# EAGLE library part ATXMEGA256A1 (library atmel-xmega)
8/16-bit XMEGA A1 Microcontroller Features High-performance, Low-power 8/16-bit Atmel® AVR® XMEGATM Microcontroller Non-Volatile Program and Data Memories – 64K - 384K Bytes of In-System Self-Programmable Flash – 4K - 8K Bytes Boot Section with Independent Lock Bits – 2 KB - 4 KB EEPROM – 4 KB - 32 KB Internal SRAM External Bus Interface for up to 16M bytes SRAM External Bus Interface for up to 128M bit SDRAM Peripheral Features – Four-channel DMA Controller with support for external requests – Eight-channel Event System – Eight 16-bit Timer/Counters Four Timer/Counters with 4 Output Compare or Input Capture channels Four Timer/Counters with 2 Output Compare or Input Capture channels High-Resolution Extension on all Timer/Counters Advanced Waveform Extension on two Timer/Counters – Eight USARTs IrDA modulation/demodulation for one USART – Four Two-Wire Interfaces with dual address match (I2C and SMBus compatible) – Four SPI (Serial Peripheral Interface) peripherals – AES and DES Crypto Engine – 16-bit Real Time Counter with separate Oscillator – Two Eight-channel, 12-bit, 2 Msps Analog to Digital Converters – Two Two-channel, 12-bit, 1 Msps Digital to Analog Converters – Four Analog Comparators with Window compare function – External Interrupts on all General Purpose I/O pins – Programmable Watchdog Timer with Separate On-chip Ultra Low Power Oscillator Special Microcontroller Features – Power-on Reset and Programmable Brown-out Detection – Internal and External Clock Options with PLL and Prescaler – Programmable Multi-level Interrupt Controller – Sleep Modes: Idle, Power-down, Standby, Power-save, Extended Standby – Advanced Programming, Test and Debugging Interfaces JTAG (IEEE 1149.1 Compliant) Interface for programming, test and debugging PDI (Program and Debug Interface) for programming and debugging I/O and Packages – 78 Programmable I/O Lines – 100 - lead TQFP – 100 - ball CBGA – 100 - ball VFBGA Operating Voltage – 1.6 – 3.6V Speed performance – 0 – 12 MHz @ 1.6 – 3.6V – 0 – 32 MHz @ 2.7 – 3.6V
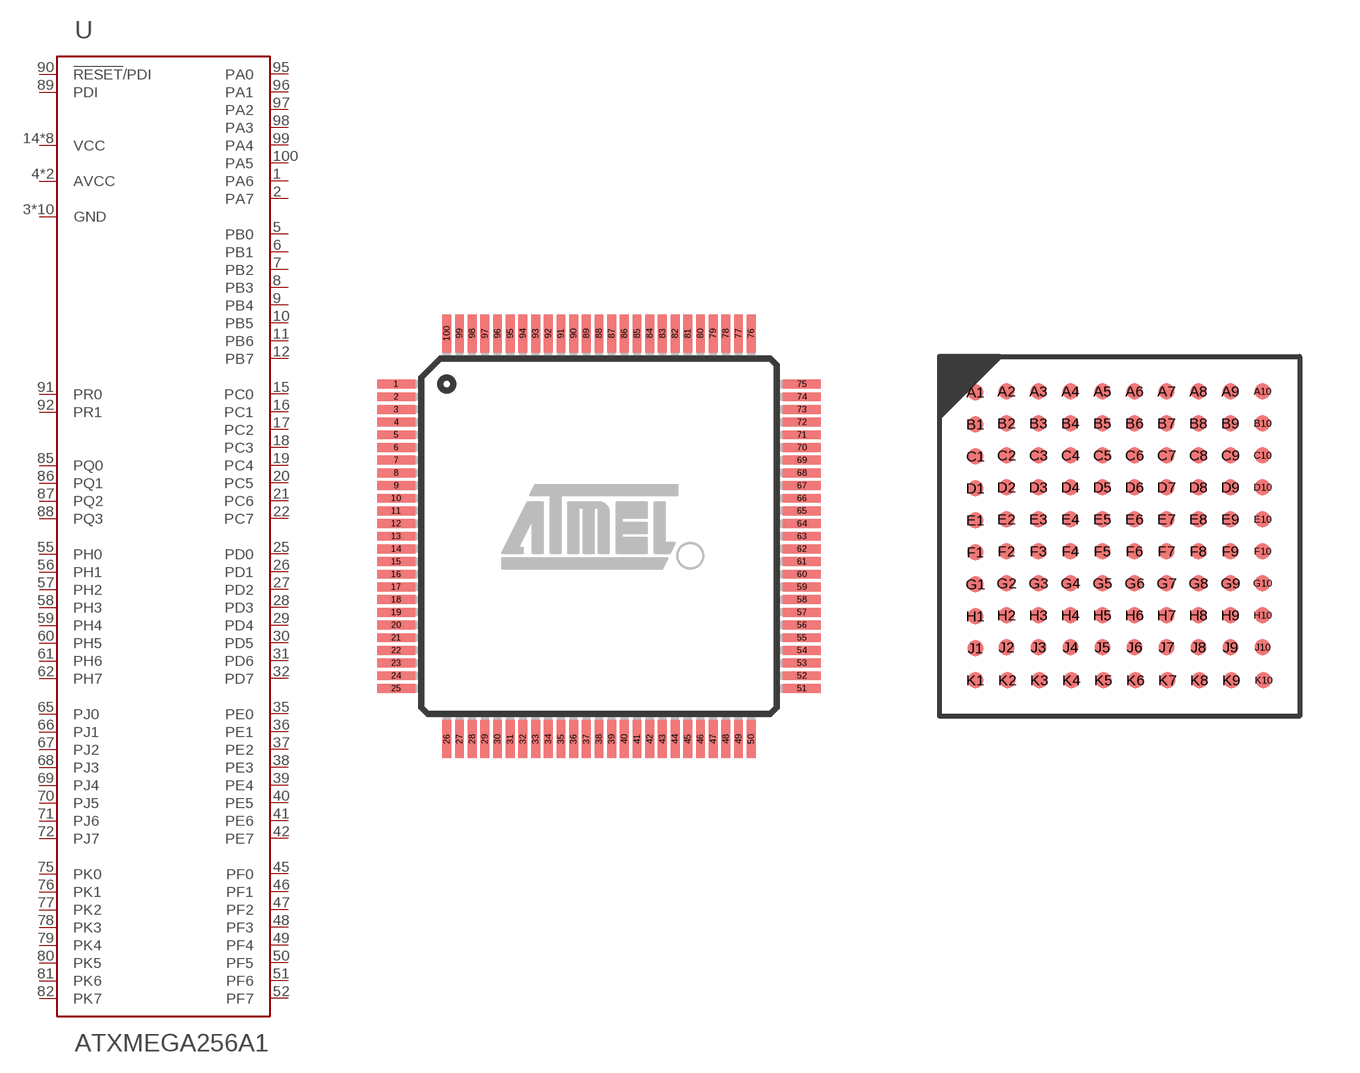
[diagram p31: symbol with the pads of TQFP-100A-100; footprints TQFP-100A-100, CBGA-100C1-100]

Designator prefix U

## ATXMEGA256A1-AU  [TQFP-100A-100]
1  PA6
2  PA7
3  GND  pwr
4  AVCC  pwr
5  PB0
6  PB1
7  PB2
8  PB3
9  PB4
10  PB5
11  PB6
12  PB7
13  GND  pwr
14  VCC  pwr
15  PC0
16  PC1
17  PC2
18  PC3
19  PC4
20  PC5
21  PC6
22  PC7
23  GND  pwr
24  VCC  pwr
25  PD0
26  PD1
27  PD2
28  PD3
29  PD4
30  PD5
31  PD6
32  PD7
33  GND  pwr
34  VCC  pwr
35  PE0
36  PE1
37  PE2
38  PE3
39  PE4
40  PE5
41  PE6
42  PE7
43  GND  pwr
44  VCC  pwr
45  PF0
46  PF1
47  PF2
48  PF3
49  PF4
50  PF5
51  PF6
52  PF7
53  GND  pwr
54  VCC  pwr
55  PH0
56  PH1
57  PH2
58  PH3
59  PH4
60  PH5
61  PH6
62  PH7
63  GND  pwr
64  VCC  pwr
65  PJ0
66  PJ1
67  PJ2
68  PJ3
69  PJ4
70  PJ5
71  PJ6
72  PJ7
73  GND  pwr
74  VCC  pwr
75  PK0
76  PK1
77  PK2
78  PK3
79  PK4
80  PK5
81  PK6
82  PK7
83  VCC  pwr
84  GND  pwr
85  PQ0
86  PQ1
87  PQ2
88  PQ3
89  PDI
90  !RESET!/PDI
91  PR0
92  PR1
93  GND  pwr
94  AVCC  pwr
95  PA0
96  PA1
97  PA2
98  PA3
99  PA4
100  PA5

## ATXMEGA256A1-CU  [CBGA-100C1-100]
A1  PK0
A2  VCC  pwr
A3  GND  pwr
A4  PJ3
A5  VCC  pwr
A6  GND  pwr
A7  PH1
A8  GND  pwr
A9  VCC  pwr
A10  PF7
B1  PK3
B2  PK2
B3  PK1
B4  PJ4
B5  PH7
B6  PH4
B7  PH2
B8  PH0
B9  PF6
B10  PF5
C1  VCC  pwr
C2  PK5
C3  PK4
C4  PJ5
C5  PJ0
C6  PH5
C7  PH3
C8  PF2
C9  PF3
C10  VCC  pwr
D1  GND  pwr
D2  PK6
D3  PK7
D4  PJ6
D5  PJ1
D6  PH6
D7  PF0
D8  PF1
D9  PF4
D10  GND  pwr
E1  PQ0
E2  PQ1
E3  PQ2
E4  PJ7
E5  PJ2
E6  PE7
E7  PE6
E8  PE5
E9  PE4
E10  PE3
F1  PR1
F2  PR0
F3  !RESET!/PDI
F4  PDI
F5  PQ3
F6  PC2
F7  PE2
F8  PE1
F9  PE0
F10  VCC  pwr
G1  GND  pwr
G2  PA1
G3  PA4
G4  PB3
G5  PB4
G6  PC1
G7  PC6
G8  PD7
G9  PD6
G10  GND  pwr
H1  AVCC  pwr
H2  PA2
H3  PA5
H4  PB2
H5  PB5
H6  PC0
H7  PC5
H8  PD5
H9  PD4
H10  PD3
J1  PA0
J2  PA3
J3  PB0
J4  PB1
J5  PB6
J6  PC3
J7  PC4
J8  PC7
J9  PD2
J10  PD1
K1  PA6
K2  PA7
K3  GND  pwr
K4  AVCC  pwr
K5  PB7
K6  VCC  pwr
K7  GND  pwr
K8  VCC  pwr
K9  GND  pwr
K10  PD0

## ATXMEGA256A1-C7U  [VFBGA-100C2-100]
Pads as for CBGA-100C1-100

## Footprint TQFP-100A-100 (pad centres in mm)
100A, 100-lead, 14 x 14 mm Body Size, 1.0 mm Body Thickness, 0.5 mm Lead Pitch, Thin Profile Plastic Quad Flat Package (TQFP)
smd 1.5 x 0.35: 1 -8,6; 2 -8,5.5; 3 -8,5; 4 -8,4.5; 5 -8,4; 6 -8,3.5; 7 -8,3; 8 -8,2.5; 9 -8,2; 10 -8,1.5; 11 -8,1; 12 -8,0.5; 13 -8,0; 14 -8,-0.5; 15 -8,-1; 16 -8,-1.5; 17 -8,-2; 18 -8,-2.5; 19 -8,-3; 20 -8,-3.5; 21 -8,-4; 22 -8,-4.5; 23 -8,-5; 24 -8,-5.5; 25 -8,-6; 51 8,-6; 52 8,-5.5; 53 8,-5; 54 8,-4.5; 55 8,-4; 56 8,-3.5; 57 8,-3; 58 8,-2.5; 59 8,-2; 60 8,-1.5; 61 8,-1; 62 8,-0.5; 63 8,0; 64 8,0.5; 65 8,1; 66 8,1.5; 67 8,2; 68 8,2.5; 69 8,3; 70 8,3.5; 71 8,4; 72 8,4.5; 73 8,5; 74 8,5.5; 75 8,6
smd 0.35 x 1.5: 26 -6,-8; 27 -5.5,-8; 28 -5,-8; 29 -4.5,-8; 30 -4,-8; 31 -3.5,-8; 32 -3,-8; 33 -2.5,-8; 34 -2,-8; 35 -1.5,-8; 36 -1,-8; 37 -0.5,-8; 38 0,-8; 39 0.5,-8; 40 1,-8; 41 1.5,-8; 42 2,-8; 43 2.5,-8; 44 3,-8; 45 3.5,-8; 46 4,-8; 47 4.5,-8; 48 5,-8; 49 5.5,-8; 50 6,-8; 76 6,8; 77 5.5,8; 78 5,8; 79 4.5,8; 80 4,8; 81 3.5,8; 82 3,8; 83 2.5,8; 84 2,8; 85 1.5,8; 86 1,8; 87 0.5,8; 88 0,8; 89 -0.5,8; 90 -1,8; 91 -1.5,8; 92 -2,8; 93 -2.5,8; 94 -3,8; 95 -3.5,8; 96 -4,8; 97 -4.5,8; 98 -5,8; 99 -5.5,8; 100 -6,8

## Footprint CBGA-100C1-100 (pad centres in mm)
100C1, 100-ball, 9 x 9 x 1.2 mm Body, Ball Pitch 0.80 mm Chip Array BGA Package (CBGA)
smd 0.4 x 0.4: A1 -3.6,3.6; A2 -2.825,3.625; A3 -2.025,3.625; A4 -1.225,3.625; A5 -0.425,3.625; A6 0.375,3.625; A7 1.175,3.625; A8 1.975,3.625; A9 2.775,3.625; A10 3.575,3.625; B1 -3.6,2.8; B2 -2.825,2.825; B3 -2.025,2.825; B4 -1.225,2.825; B5 -0.425,2.825; B6 0.375,2.825; B7 1.175,2.825; B8 1.975,2.825; B9 2.775,2.825; B10 3.575,2.825; C1 -3.6,2; C2 -2.825,2.025; C3 -2.025,2.025; C4 -1.225,2.025; C5 -0.425,2.025; C6 0.375,2.025; C7 1.175,2.025; C8 1.975,2.025; C9 2.775,2.025; C10 3.575,2.025; D1 -3.6,1.2; D2 -2.825,1.225; D3 -2.025,1.225; D4 -1.225,1.225; D5 -0.425,1.225; D6 0.375,1.225; D7 1.175,1.225; D8 1.975,1.225; D9 2.775,1.225; D10 3.575,1.225; E1 -3.6,0.4; E2 -2.825,0.425; E3 -2.025,0.425; E4 -1.225,0.425; E5 -0.425,0.425; E6 0.375,0.425; E7 1.175,0.425; E8 1.975,0.425; E9 2.775,0.425; E10 3.575,0.425; F1 -3.6,-0.4; F2 -2.825,-0.375; F3 -2.025,-0.375; F4 -1.225,-0.375; F5 -0.425,-0.375; F6 0.375,-0.375; F7 1.175,-0.375; F8 1.975,-0.375; F9 2.775,-0.375; F10 3.575,-0.375; G1 -3.6,-1.2; G2 -2.825,-1.175; G3 -2.025,-1.175; G4 -1.225,-1.175; G5 -0.425,-1.175; G6 0.375,-1.175; G7 1.175,-1.175; G8 1.975,-1.175; G9 2.775,-1.175; G10 3.575,-1.175; H1 -3.6,-2; H2 -2.825,-1.975; H3 -2.025,-1.975; H4 -1.225,-1.975; H5 -0.425,-1.975; H6 0.375,-1.975; H7 1.175,-1.975; H8 1.975,-1.975; H9 2.775,-1.975; H10 3.575,-1.975; J1 -3.6,-2.8; J2 -2.825,-2.775; J3 -2.025,-2.775; J4 -1.225,-2.775; J5 -0.425,-2.775; J6 0.375,-2.775; J7 1.175,-2.775; J8 1.975,-2.775; J9 2.775,-2.775; J10 3.575,-2.775; K1 -3.6,-3.6; K2 -2.8,-3.6; K3 -2,-3.6; K4 -1.2,-3.6; K5 -0.4,-3.6; K6 0.4,-3.6; K7 1.2,-3.6; K8 2,-3.6; K9 2.8,-3.6; K10 3.6,-3.6

## Footprint VFBGA-100C2-100 (pad centres in mm)
100C2, 100-ball (10 x 10 Array), 0.65 mm Pitch, 7.0 x 7.0 x 1.0 mm, Very Thin, Fine-Pitch Ball Grid Array Package (VFBGA)
smd 0.35 x 0.35: A1 -2.925,2.925; A2 -2.275,2.925; A3 -1.625,2.925; A4 -0.975,2.925; A5 -0.325,2.925; A6 0.325,2.925; A7 0.975,2.925; A8 1.625,2.925; A9 2.275,2.925; A10 2.925,2.925; B1 -2.925,2.275; B2 -2.275,2.275; B3 -1.625,2.275; B4 -0.975,2.275; B5 -0.325,2.275; B6 0.325,2.275; B7 0.975,2.275; B8 1.625,2.275; B9 2.275,2.275; B10 2.925,2.275; C1 -2.925,1.625; C2 -2.275,1.625; C3 -1.625,1.625; C4 -0.975,1.625; C5 -0.325,1.625; C6 0.325,1.625; C7 0.975,1.625; C8 1.625,1.625; C9 2.275,1.625; C10 2.925,1.625; D1 -2.925,0.975; D2 -2.275,0.975; D3 -1.625,0.975; D4 -0.975,0.975; D5 -0.325,0.975; D6 0.325,0.975; D7 0.975,0.975; D8 1.625,0.975; D9 2.275,0.975; D10 2.925,0.975; E1 -2.925,0.325; E2 -2.275,0.325; E3 -1.625,0.325; E4 -0.975,0.325; E5 -0.325,0.325; E6 0.325,0.325; E7 0.975,0.325; E8 1.625,0.325; E9 2.275,0.325; E10 2.925,0.325; F1 -2.925,-0.325; F2 -2.275,-0.325; F3 -1.625,-0.325; F4 -0.975,-0.325; F5 -0.325,-0.325; F6 0.325,-0.325; F7 0.975,-0.325; F8 1.625,-0.325; F9 2.275,-0.325; F10 2.925,-0.325; G1 -2.925,-0.975; G2 -2.275,-0.975; G3 -1.625,-0.975; G4 -0.975,-0.975; G5 -0.325,-0.975; G6 0.325,-0.975; G7 0.975,-0.975; G8 1.625,-0.975; G9 2.275,-0.975; G10 2.925,-0.975; H1 -2.925,-1.625; H2 -2.275,-1.625; H3 -1.625,-1.625; H4 -0.975,-1.625; H5 -0.325,-1.625; H6 0.325,-1.625; H7 0.975,-1.625; H8 1.625,-1.625; H9 2.275,-1.625; H10 2.925,-1.625; J1 -2.925,-2.275; J2 -2.275,-2.275; J3 -1.625,-2.275; J4 -0.975,-2.275; J5 -0.325,-2.275; J6 0.325,-2.275; J7 0.975,-2.275; J8 1.625,-2.275; J9 2.275,-2.275; J10 2.925,-2.275; K1 -2.925,-2.925; K2 -2.275,-2.925; K3 -1.625,-2.925; K4 -0.975,-2.925; K5 -0.325,-2.925; K6 0.325,-2.925; K7 0.975,-2.925; K8 1.625,-2.925; K9 2.275,-2.925; K10 2.925,-2.925